# Altium schematic symbol library ULN2003D.SchLib: 1 symbol
Pins are listed as number, name and electrical type; pins without a type are passive.

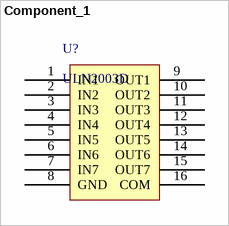
[diagram p0: symbol Component_1]

## Component_1
designator U?, comment ULN2003D
footprint DIP16
pins: 1 IN1, 2 IN2, 3 IN3, 4 IN4, 5 IN5, 6 IN6, 7 IN7, 8 GND, 9 OUT1, 10 OUT2, 11 OUT3, 12 OUT4, 13 OUT5, 14 OUT6, 15 OUT7, 16 COM